# Altium footprint library Passives.PcbLib: 8 footprints
Each footprint in its own frame and in the unit in brackets; x right, y up, seen from the top. Pads: shape width x height; smd on the part's side, far side on the other; paste and mask are expansions set on the pad; w line width, h text height; cw(c..) or ccw(c..) is an arc to the next point about the centre after c.
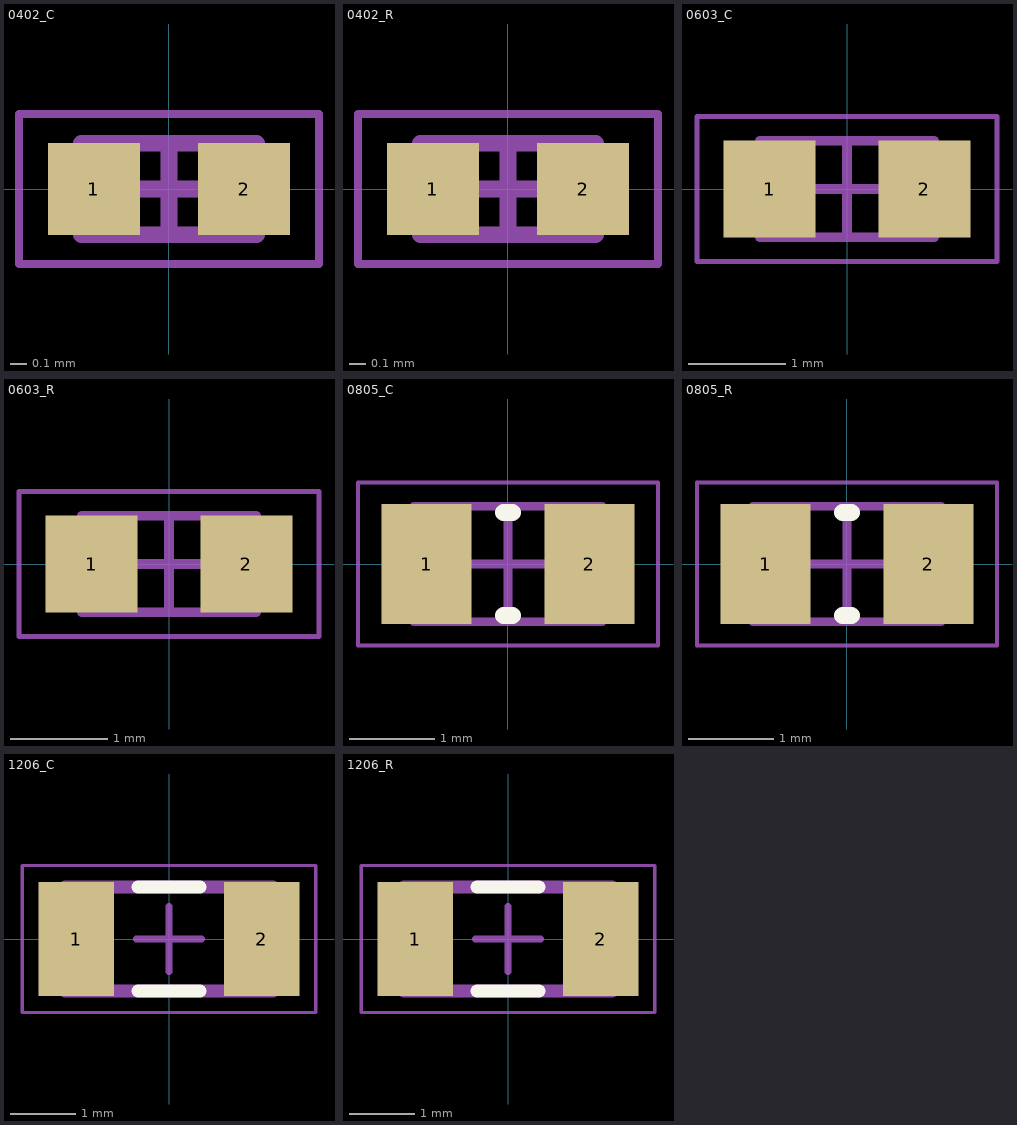
[diagram p0: the footprints below, top view; thin cyan lines are the x and y axes]

## 0402_C [mm] "2-Leads, Body 1.05x0.55mm, IPC Medium Density"
height 0.4
pads (2):
  rect 0.55x0.55 smd: 1(-0.45,0) 2(0.45,0)
Top 3D Body (Mech13):
  lines w0.1: -0.525,-0.275 0.525,-0.275 0.525,0.275 -0.525,0.275 -0.525,-0.275
Top IPC Outline:
  lines w0.05: -0.9,-0.45 0.9,-0.45 0.9,0.45 -0.9,0.45 -0.9,-0.45
  lines w0.1: -0.275,0 0.275,0 ; 0,-0.275 0,0.275
3D body "C0402_045.step": height 0.45, standoff 0, extent -0.5,-0.25 0.5,0.25

## 0402_R [mm] "2-Leads, Body 1.05x0.55mm, IPC Medium Density"
height 0.4
pads (2):
  rect 0.55x0.55 smd: 1(-0.45,0) 2(0.45,0)
Top 3D Body (Mech13):
  lines w0.1: -0.525,-0.275 0.525,-0.275 0.525,0.275 -0.525,0.275 -0.525,-0.275
Top IPC Outline:
  lines w0.05: -0.9,-0.45 0.9,-0.45 0.9,0.45 -0.9,0.45 -0.9,-0.45
  lines w0.1: -0.275,0 0.275,0 ; 0,-0.275 0,0.275
3D body "R0402 ERA2A Thin.step": height 0.35, standoff 0, extent -0.5,-0.25 0.5,0.25

## 0603_C [mm] "Chip Resistor, 2-Leads, Body 1.60x0.80mm, IPC Medium Density"
height 0.55
pads (2):
  rect 0.95x1 smd: 1(-0.8,0) 2(0.8,0)
Top 3D Body (Mech13):
  lines w0.1: -0.9,-0.5 0.9,-0.5 0.9,0.5 -0.9,0.5 -0.9,-0.5
Top IPC Outline:
  lines w0.05: -1.55,-0.75 1.55,-0.75 1.55,0.75 -1.55,0.75 -1.55,-0.75
  lines w0.1: -0.5,0 0.5,0 ; 0,-0.5 0,0.5
3D body "C0603_060.step": height 0.6, standoff 0, extent -0.8,-0.4 0.8,0.4

## 0603_R [mm] "Chip Resistor, 2-Leads, Body 1.60x0.80mm, IPC Medium Density"
height 0.55
pads (2):
  rect 0.95x1 smd: 1(-0.8,0) 2(0.8,0)
Top 3D Body (Mech13):
  lines w0.1: -0.9,-0.5 0.9,-0.5 0.9,0.5 -0.9,0.5 -0.9,-0.5
Top IPC Outline:
  lines w0.05: -1.55,-0.75 -1.55,0.75 1.55,0.75 1.55,-0.75 -1.55,-0.75
  lines w0.1: -0.5,0 0.5,0 ; 0,-0.5 0,0.5
3D body "R0603 ERJ3EK Thick.step": height 0.45, standoff 0, extent -0.8,-0.4 0.8,0.4

## 0805_C [mm]
height 0.65
pads (2):
  rect 1.05x1.4 smd: 1(-0.95,0) 2(0.95,0)
Top Overlay:
  lines w0.2: -0.05,-0.6 0.05,-0.6 ; -0.05,0.6 0.05,0.6
Top 3D Body (Mech13):
  lines w0.1: -1.1,-0.675 1.1,-0.675 1.1,0.675 -1.1,0.675 -1.1,-0.675
Top IPC Outline:
  lines w0.05: -1.75,-0.95 1.75,-0.95 1.75,0.95 -1.75,0.95 -1.75,-0.95
  lines w0.1: -0.5,0 0.5,0 ; 0,-0.5 0,0.5
3D body "C0805_060.step": height 0.6, standoff 0, extent -1,-0.625 1,0.625

## 0805_R [mm]
height 0.65
pads (2):
  rect 1.05x1.4 smd: 1(-0.95,0) 2(0.95,0)
Top Overlay:
  lines w0.2: -0.05,-0.6 0.05,-0.6 ; -0.05,0.6 0.05,0.6
Top 3D Body (Mech13):
  lines w0.1: -1.1,-0.675 1.1,-0.675 1.1,0.675 -1.1,0.675 -1.1,-0.675
Top IPC Outline:
  lines w0.05: -1.75,-0.95 1.75,-0.95 1.75,0.95 -1.75,0.95 -1.75,-0.95
  lines w0.1: -0.5,0 0.5,0 ; 0,-0.5 0,0.5
3D body "R0805 ERA6A Thin.step": height 0.5, standoff 0, extent -1,-0.625 1,0.625

## 1206_C [mm]
pads (2):
  rect 1.156x1.758 smd: 1(-1.426,0) 2(1.426,0)
Top Overlay:
  lines w0.2: -0.473,-0.8 0.473,-0.8 ; -0.473,0.8 0.473,0.8
Top 3D Body (Mech13):
  lines w0.2: -1.6,-0.8 -1.6,0.8 1.6,0.8 1.6,-0.8 -1.6,-0.8
Top IPC Outline:
  lines w0.05: -2.254,-1.129 -2.254,1.129 2.254,1.129 2.254,-1.129 -2.254,-1.129
  lines w0.1: -0.5,0 0.5,0 ; 0,-0.5 0,0.5
3D body "C1206_085.step": height 0.85, standoff 0, extent -1.6,-0.8 1.6,0.8

## 1206_R [mm]
pads (2):
  rect 1.156x1.758 smd: 1(-1.426,0) 2(1.426,0)
Top Overlay:
  lines w0.2: -0.473,-0.8 0.473,-0.8 ; -0.473,0.8 0.473,0.8
Top 3D Body (Mech13):
  lines w0.2: -1.6,-0.8 1.6,-0.8 1.6,0.8 -1.6,0.8 -1.6,-0.8
Top IPC Outline:
  lines w0.05: -2.254,-1.129 2.254,-1.129 2.254,1.129 -2.254,1.129 -2.254,-1.129
  lines w0.1: -0.5,0 0.5,0 ; 0,-0.5 0,0.5
3D body "R1206 ETA8A Thin.step": height 0.55, standoff 0, extent -1.6,-0.8 1.6,0.8